# EAGLE library part F-2X05- (library con-headers-jp)
FEMALE HEADER
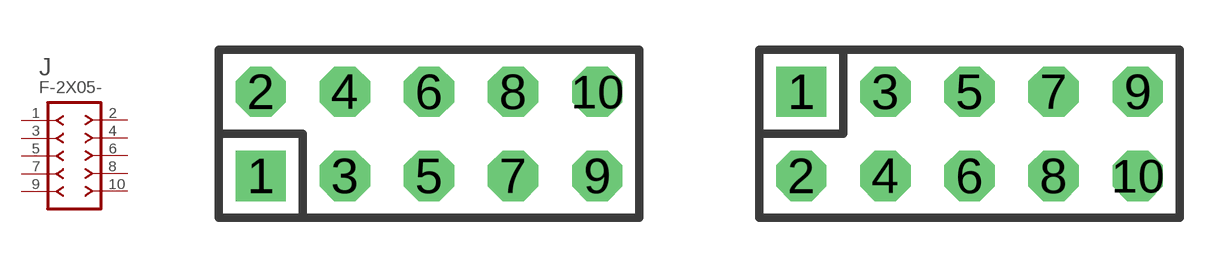
[diagram p34: symbol with the pads of DIL-100-2X05; footprints DIL-100-2X05, DIL-100-2X05_M]

Designator prefix J

## F-2X05-DIL-100  [DIL-100-2X05]
1  1  pas
2  2  pas
3  3  pas
4  4  pas
5  5  pas
6  6  pas
7  7  pas
8  8  pas
9  9  pas
10  10  pas

## F-2X05-DIL-100_M  [DIL-100-2X05_M]
Pads as for DIL-100-2X05

## F-2X05-DIL-2MM  [DIL-2MM-2X05]
Pads as for DIL-100-2X05

## F-2X05-DIL-2MM_M  [DIL-2MM-2X05_M]
Pads as for DIL-100-2X05

## F-2X05-71991  [71991-10]
Pads as for DIL-100-2X05

## F-2X05-79107  [79107-10]
Pads as for DIL-100-2X05

## F-2X05-79107_M  [79107-10_M]
Pads as for DIL-100-2X05

## F-2X05-100-TH-PT (MFPN: M20-7850546)  [SOCK-100-2X05-TH-PT]
Pads as for DIL-100-2X05

## Footprint DIL-100-2X05 (pad centres in mm)
PIN HEADER - 0.1"
drill 1.016 square: 1 -5.08,-1.27
drill 1.016 octagon: 2 -5.08,1.27; 3 -2.54,-1.27; 4 -2.54,1.27; 5 0,-1.27; 6 0,1.27; 7 2.54,-1.27; 8 2.54,1.27; 9 5.08,-1.27; 10 5.08,1.27

## Footprint DIL-100-2X05_M (pad centres in mm)
PIN HEADER - MIRRORED 0.1"
drill 1.016 square: 1 -5.08,1.27
drill 1.016 octagon: 2 -5.08,-1.27; 3 -2.54,1.27; 4 -2.54,-1.27; 5 0,1.27; 6 0,-1.27; 7 2.54,1.27; 8 2.54,-1.27; 9 5.08,1.27; 10 5.08,-1.27

## Footprint DIL-2MM-2X05 (pad centres in mm)
PIN HEADER - 2MM"
drill 0.711 pad 1.321 square: 1 -4,-1
drill 0.711 pad 1.321: 2 -4,1; 3 -2,-1; 4 -2,1; 5 0,-1; 6 0,1; 7 2,-1; 8 2,1; 9 4,-1; 10 4,1

## Footprint DIL-2MM-2X05_M (pad centres in mm)
PIN HEADER - MIRRORED 2MM
drill 0.711 pad 1.321 square: 1 -4,1
drill 0.711 pad 1.321: 2 -4,-1; 3 -2,1; 4 -2,-1; 5 0,1; 6 0,-1; 7 2,1; 8 2,-1; 9 4,1; 10 4,-1

## Footprint 71991-10 (pad centres in mm)
FCI - Dual Entry Female Pass Through, 0.1" spacing
drill 0.813 square: 1 -5.08,-3.81
drill 0.813 octagon: 2 -5.08,3.81; 3 -2.54,-3.81; 4 -2.54,3.81; 5 0,-3.81; 6 0,3.81; 7 2.54,-3.81; 8 2.54,3.81; 9 5.08,-3.81; 10 5.08,3.81
hole 1.422 at -5.08,-1.27
hole 1.422 at -5.08,1.27
hole 1.422 at -2.54,1.27
hole 1.422 at -2.54,-1.27
hole 1.422 at 0,1.27
hole 1.422 at 0,-1.27
hole 1.422 at 2.54,1.27
hole 1.422 at 2.54,-1.27
hole 1.422 at 5.08,1.27
hole 1.422 at 5.08,-1.27

## Footprint 79107-10 (pad centres in mm)
Molex Board-To-Board Receptacal 2.00mm (.079") Pitch Milli-Grid Header, Vertical, Through-Hole Mates with: 87759, 87762, 87758, 87760
drill 0.711 square: 1 -4,-1
drill 0.711: 2 -4,1; 3 -2,-1; 4 -2,1; 5 0,-1; 6 0,1; 7 2,-1; 8 2,1; 9 4,-1; 10 4,1

## Footprint 79107-10_M (pad centres in mm)
Molex Board-To-Board Receptacal - MIRRORED 2.00mm (.079") Pitch Milli-Grid Header, Vertical, Through-Hole Mates with: 87759, 87762, 87758, 87760
drill 0.711 square: 1 -4,1
drill 0.711: 2 -4,-1; 3 -2,1; 4 -2,-1; 5 0,1; 6 0,-1; 7 2,1; 8 2,-1; 9 4,1; 10 4,-1

## Footprint SOCK-100-2X05-TH-PT (pad centres in mm)
SOCKET 2x5 0.1" pitch Receptacle, Bottom or Top Entry, Thru Hole, Pass Thru. Harwin M20-785xx Drawing <https://cdn.harwin.com/pdfs/M20-785.pdf>
drill 1.016 square: 1 -5.08,-3.81
drill 1.016: 2 -5.08,3.81; 3 -2.54,-3.81; 4 -2.54,3.81; 5 0,-3.81; 6 0,3.81; 7 2.54,-3.81; 8 2.54,3.81; 9 5.08,-3.81; 10 5.08,3.81
hole 1.2 at -5.08,1.27
hole 1.2 at -2.54,1.27
hole 1.2 at 0,1.27
hole 1.2 at 2.54,1.27
hole 1.2 at 5.08,1.27
hole 1.2 at 5.08,-1.27
hole 1.2 at 2.54,-1.27
hole 1.2 at 0,-1.27
hole 1.2 at -2.54,-1.27
hole 1.2 at -5.08,-1.27